# Altium integrated library RHD2000.IntLib: 14 symbols
Pins are listed as number, name and electrical type; pins without a type are passive.

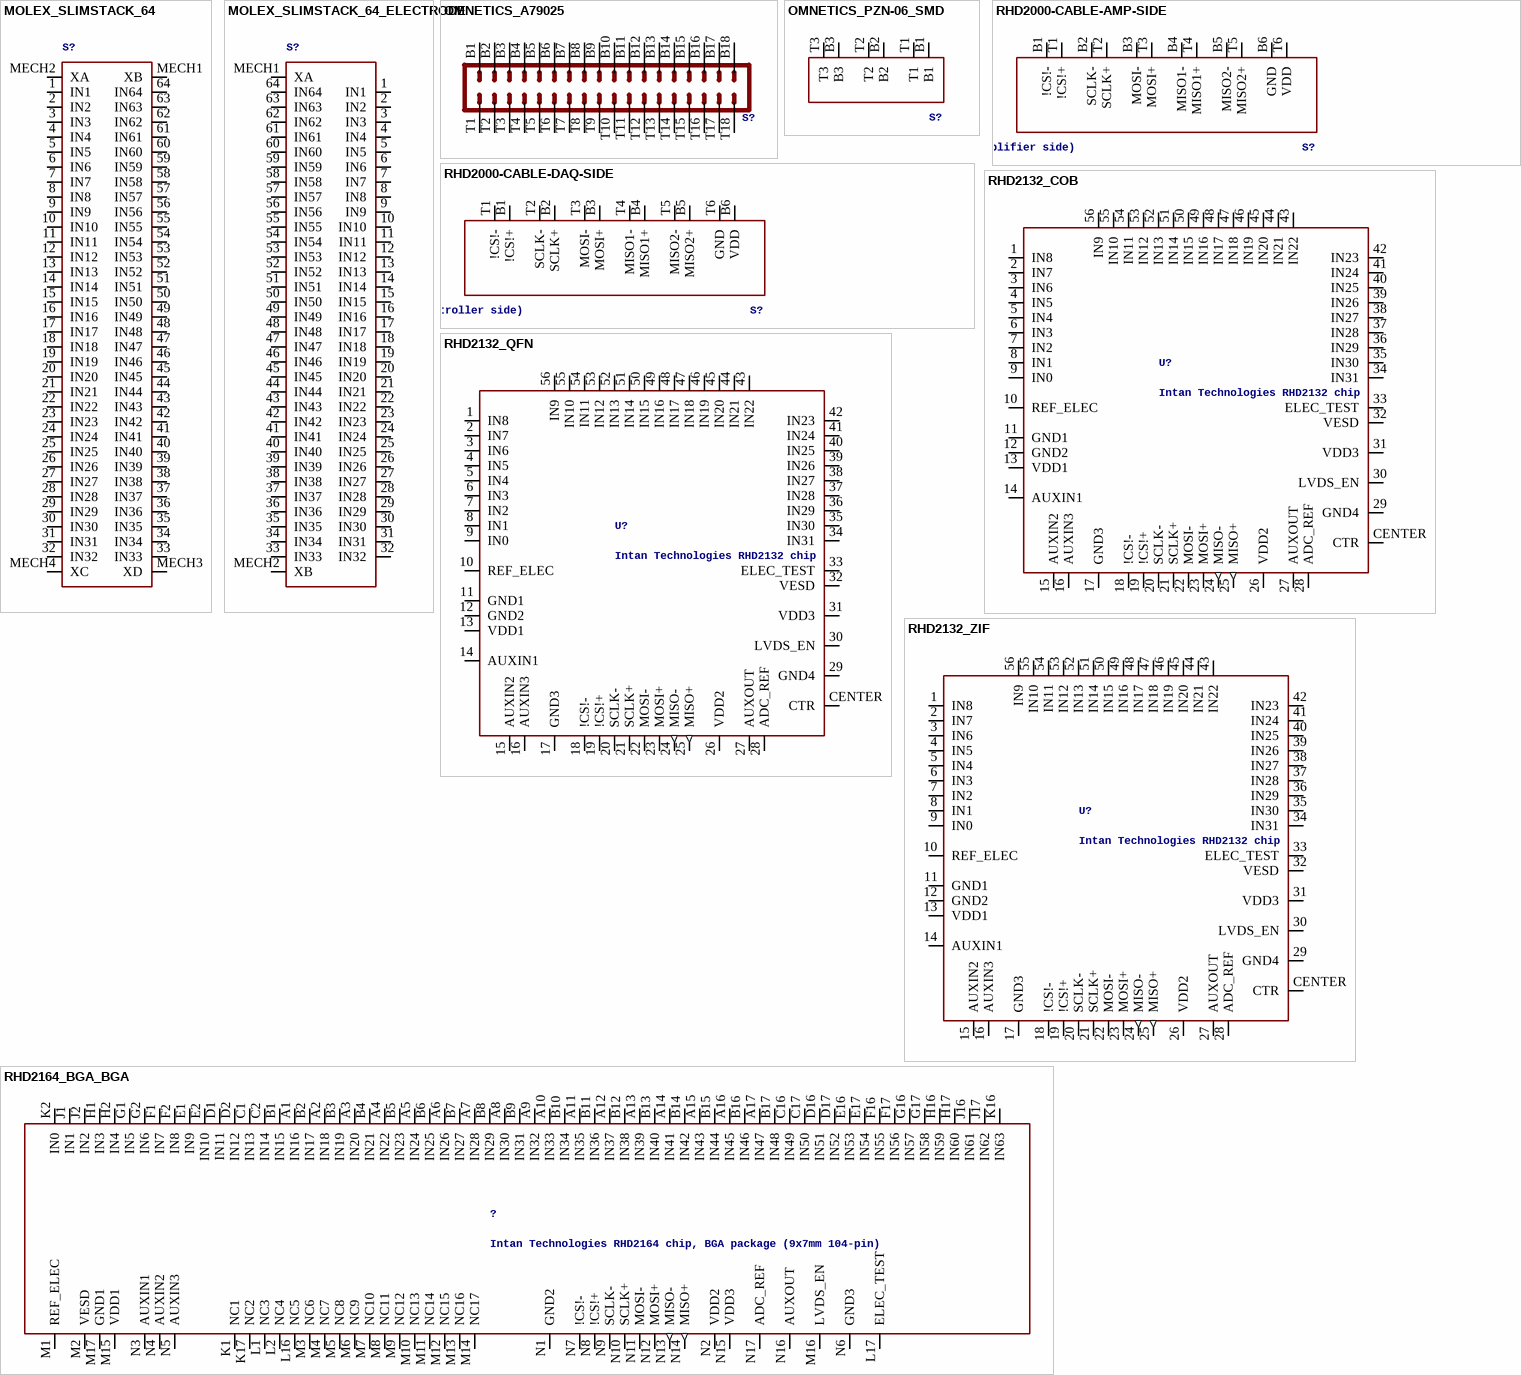
[diagram p0: symbols MOLEX_SLIMSTACK_64 to RHD2164_BGA_BGA]

## MOLEX_SLIMSTACK_64
designator S?, comment Molex 64-pin SlimStack connector (DigiKey WM24076-ND)  (value not drawn)
GateName_1: A; SymbolName_1: MOLEX_SLIMSTACK_64; LibraryName: RHD2000; DeviceSetName: MOLEX_SLIMSTACK_64; Package: MOLEX_SLIMSTACK_64
footprint MOLEX_SLIMSTACK_64
pins: 1 IN1, 2 IN2, 3 IN3, 4 IN4, 5 IN5, 6 IN6, 7 IN7, 8 IN8, 9 IN9, 10 IN10, 11 IN11, 12 IN12, 13 IN13, 14 IN14, 15 IN15, 16 IN16, 17 IN17, 18 IN18, 19 IN19, 20 IN20, 21 IN21, 22 IN22, 23 IN23, 24 IN24, 25 IN25, 26 IN26, 27 IN27, 28 IN28, 29 IN29, 30 IN30, 31 IN31, 32 IN32, 33 IN33, 34 IN34, 35 IN35, 36 IN36, 37 IN37, 38 IN38, 39 IN39, 40 IN40, 41 IN41, 42 IN42, 43 IN43, 44 IN44, 45 IN45, 46 IN46, 47 IN47, 48 IN48, 49 IN49, 50 IN50, 51 IN51, 52 IN52, 53 IN53, 54 IN54, 55 IN55, 56 IN56, 57 IN57, 58 IN58, 59 IN59, 60 IN60, 61 IN61, 62 IN62, 63 IN63, 64 IN64, MECH1 XB, MECH2 XA, MECH3 XD, MECH4 XC

## MOLEX_SLIMSTACK_64_ELECTRODE
designator S?, comment Molex 64-pin SlimStack connector (electrode side) (DigiKey WM24084-ND)  (value not drawn)
GateName_1: A; SymbolName_1: MOLEX_SLIMSTACK_64_ELECTRODE; LibraryName: RHD2000; DeviceSetName: MOLEX_SLIMSTACK_64_ELECTRODE; Package: MOLEX_SLIMSTACK_64_ELECTRODE
footprint MOLEX_SLIMSTACK_64_ELECTRODE
pins: 1 IN1, 2 IN2, 3 IN3, 4 IN4, 5 IN5, 6 IN6, 7 IN7, 8 IN8, 9 IN9, 10 IN10, 11 IN11, 12 IN12, 13 IN13, 14 IN14, 15 IN15, 16 IN16, 17 IN17, 18 IN18, 19 IN19, 20 IN20, 21 IN21, 22 IN22, 23 IN23, 24 IN24, 25 IN25, 26 IN26, 27 IN27, 28 IN28, 29 IN29, 30 IN30, 31 IN31, 32 IN32, 33 IN33, 34 IN34, 35 IN35, 36 IN36, 37 IN37, 38 IN38, 39 IN39, 40 IN40, 41 IN41, 42 IN42, 43 IN43, 44 IN44, 45 IN45, 46 IN46, 47 IN47, 48 IN48, 49 IN49, 50 IN50, 51 IN51, 52 IN52, 53 IN53, 54 IN54, 55 IN55, 56 IN56, 57 IN57, 58 IN58, 59 IN59, 60 IN60, 61 IN61, 62 IN62, 63 IN63, 64 IN64, MECH1 XA, MECH2 XB

## OMNETICS_A79025
designator S?, comment Omnetics A79025 36-pin connector  (value not drawn)
GateName_1: A; SymbolName_1: OMNETICS_A79025; LibraryName: RHD2000; DeviceSetName: OMNETICS_A79025; Package: OMNETICS_A79025
footprint OMNETICS_A79025
pins: B1, B2, B3, B4, B5, B6, B7, B8, B9, B10, B11, B12, B13, B14, B15, B16, B17, B18, T1, T2, T3, T4, T5, T6, T7, T8, T9, T10, T11, T12, T13, T14, T15, T16, T17, T18

## OMNETICS_PZN-06_SMD
designator S?
GateName_1: A; SymbolName_1: OMNETICS_PZN-06; DeviceName: _SMD; LibraryName: RHD2000; DeviceSetName: OMNETICS_PZN-06; Package: OMNETICS_PZN-06-AA
footprint OMNETICS_PZN-06-AA
pins: B1, B2, B3, T1, T2, T3

## RHD2000-CABLE-AMP-SIDE
designator S?, comment Omnetics A79623 PZN-12-AA connector for SPI interface (amplifier side)
GateName_1: A; SymbolName_1: RHD2000-CABLE; DeviceSetName: RHD2000-CABLE-AMP-SIDE; LibraryName: RHD2000; Package: OMNETICS_PZN-12-AA
footprint OMNETICS_PZN-12-AA
pins: B1 !CS!-, B2 SCLK-, B3 MOSI-, B4 MISO1-, B5 MISO2-, B6 GND (power), T1 !CS!+, T2 SCLK+, T3 MOSI+, T4 MISO1+, T5 MISO2+, T6 VDD

## RHD2000-CABLE-DAQ-SIDE
designator S?, comment Omnetics A79623 PZN-12-AA connector for SPI interface (controller side)
GateName_1: A; SymbolName_1: RHD2000-CABLE; DeviceSetName: RHD2000-CABLE-DAQ-SIDE; LibraryName: RHD2000; Package: OMNETICS_PZN-12-AA
footprint OMNETICS_PZN-12-AA
pins: B1 !CS!+, B2 SCLK+, B3 MOSI+, B4 MISO1+, B5 MISO2+, B6 VDD, T1 !CS!-, T2 SCLK-, T3 MOSI-, T4 MISO1-, T5 MISO2-, T6 GND (power)

## RHD2132_COB
designator U?, comment Intan Technologies RHD2132 chip
GateName_1: A; DeviceName: _COB; SymbolName_1: RHD2132; LibraryName: RHD2000; DeviceSetName: RHD2132; Package: RHD2000_56PIN_COB
footprint RHD2000_56PIN_COB
pins: 1 IN8, 2 IN7, 3 IN6, 4 IN5, 5 IN4, 6 IN3, 7 IN2, 8 IN1, 9 IN0, 10 REF_ELEC, 11 GND1 (power), 12 GND2 (power), 13 VDD1 (power), 14 AUXIN1, 15 AUXIN2, 16 AUXIN3, 17 GND3 (power), 18 !CS!-, 19 !CS!+, 20 SCLK-, 21 SCLK+, 22 MOSI-, 23 MOSI+, 24 MISO- (out), 25 MISO+ (out), 26 VDD2 (power), 27 AUXOUT (hiz), 28 ADC_REF, 29 GND4 (power), 30 LVDS_EN, 31 VDD3 (power), 32 VESD (power), 33 ELEC_TEST, 34 IN31, 35 IN30, 36 IN29, 37 IN28, 38 IN27, 39 IN26, 40 IN25, 41 IN24, 42 IN23, 43 IN22, 44 IN21, 45 IN20, 46 IN19, 47 IN18, 48 IN17, 49 IN16, 50 IN15, 51 IN14, 52 IN13, 53 IN12, 54 IN11, 55 IN10, 56 IN9, CENTER CTR (power)

## RHD2132_QFN
designator U?, comment Intan Technologies RHD2132 chip
GateName_1: A; DeviceName: _QFN; SymbolName_1: RHD2132; LibraryName: RHD2000; DeviceSetName: RHD2132; Package: QFN56_8_X_8_LARGE
footprint QFN56_8_X_8_LARGE
pins: 1 IN8, 2 IN7, 3 IN6, 4 IN5, 5 IN4, 6 IN3, 7 IN2, 8 IN1, 9 IN0, 10 REF_ELEC, 11 GND1 (power), 12 GND2 (power), 13 VDD1 (power), 14 AUXIN1, 15 AUXIN2, 16 AUXIN3, 17 GND3 (power), 18 !CS!-, 19 !CS!+, 20 SCLK-, 21 SCLK+, 22 MOSI-, 23 MOSI+, 24 MISO- (out), 25 MISO+ (out), 26 VDD2 (power), 27 AUXOUT (hiz), 28 ADC_REF, 29 GND4 (power), 30 LVDS_EN, 31 VDD3 (power), 32 VESD (power), 33 ELEC_TEST, 34 IN31, 35 IN30, 36 IN29, 37 IN28, 38 IN27, 39 IN26, 40 IN25, 41 IN24, 42 IN23, 43 IN22, 44 IN21, 45 IN20, 46 IN19, 47 IN18, 48 IN17, 49 IN16, 50 IN15, 51 IN14, 52 IN13, 53 IN12, 54 IN11, 55 IN10, 56 IN9, CENTER CTR (power)

## RHD2132_ZIF
designator U?, comment Intan Technologies RHD2132 chip
GateName_1: A; DeviceName: _ZIF; SymbolName_1: RHD2132; LibraryName: RHD2000; DeviceSetName: RHD2132; Package: ZIF_QFN56_8_X_8_MLF00056A1
footprint ZIF_QFN56_8_X_8_MLF00056A1
pins: 1 IN8, 2 IN7, 3 IN6, 4 IN5, 5 IN4, 6 IN3, 7 IN2, 8 IN1, 9 IN0, 10 REF_ELEC, 11 GND1 (power), 12 GND2 (power), 13 VDD1 (power), 14 AUXIN1, 15 AUXIN2, 16 AUXIN3, 17 GND3 (power), 18 !CS!-, 19 !CS!+, 20 SCLK-, 21 SCLK+, 22 MOSI-, 23 MOSI+, 24 MISO- (out), 25 MISO+ (out), 26 VDD2 (power), 27 AUXOUT (hiz), 28 ADC_REF, 29 GND4 (power), 30 LVDS_EN, 31 VDD3 (power), 32 VESD (power), 33 ELEC_TEST, 34 IN31, 35 IN30, 36 IN29, 37 IN28, 38 IN27, 39 IN26, 40 IN25, 41 IN24, 42 IN23, 43 IN22, 44 IN21, 45 IN20, 46 IN19, 47 IN18, 48 IN17, 49 IN16, 50 IN15, 51 IN14, 52 IN13, 53 IN12, 54 IN11, 55 IN10, 56 IN9, CENTER CTR (power)

## RHD2164_BGA_BGA
designator ?, comment Intan Technologies RHD2164 chip, BGA package (9x7mm 104-pin)
GateName_1: A; SymbolName_1: RHD2164_BGA; DeviceName: _BGA; LibraryName: RHD2000; DeviceSetName: RHD2164_BGA; Package: BGA104_9X7
footprint BGA104_9X7
pins: A1 IN16, A2 IN18, A3 IN20, A4 IN22, A5 IN24, A6 IN26, A7 IN28, A8 IN30, A9 IN32, A10 IN33, A11 IN35, A12 IN37, A13 IN39, A14 IN41, A15 IN43, A16 IN45, A17 IN47, B1 IN15, B2 IN17, B3 IN19, B4 IN21, B5 IN23, B6 IN25, B7 IN27, B8 IN29, B9 IN31, B10 IN34, B11 IN36, B12 IN38, B13 IN40, B14 IN42, B15 IN44, B16 IN46, B17 IN48, C1 IN13, C2 IN14, C16 IN49, C17 IN50, D1 IN11, D2 IN12, D16 IN51, D17 IN52, E1 IN9, E2 IN10, E16 IN53, E17 IN54, F1 IN7, F2 IN8, F16 IN55, F17 IN56, G1 IN5, G2 IN6, G16 IN57, G17 IN58, H1 IN3, H2 IN4, H16 IN59, H17 IN60, J1 IN1, J2 IN2, J16 IN61, J17 IN62, K1 NC1, K2 IN0, K16 IN63, K17 NC2, L1 NC3, L2 NC4, L16 NC5, L17 ELEC_TEST, M1 REF_ELEC, M2 VESD (power), M3 NC6, M4 NC7, M5 NC8, M6 NC9, M7 NC10, M8 NC11, M9 NC12, M10 NC13, M11 NC14, M12 NC15, M13 NC16, M14 NC17, M15 VDD1 (power), M16 LVDS_EN, M17 GND1 (power), N1 GND2 (power), N2 VDD2 (power), N3 AUXIN1, N4 AUXIN2, N5 AUXIN3, N6 GND3 (power), N7 !CS!-, N8 !CS!+, N9 SCLK-, N10 SCLK+, N11 MOSI-, N12 MOSI+, N13 MISO- (out), N14 MISO+ (out), N15 VDD3 (power), N16 AUXOUT (hiz), N17 ADC_REF

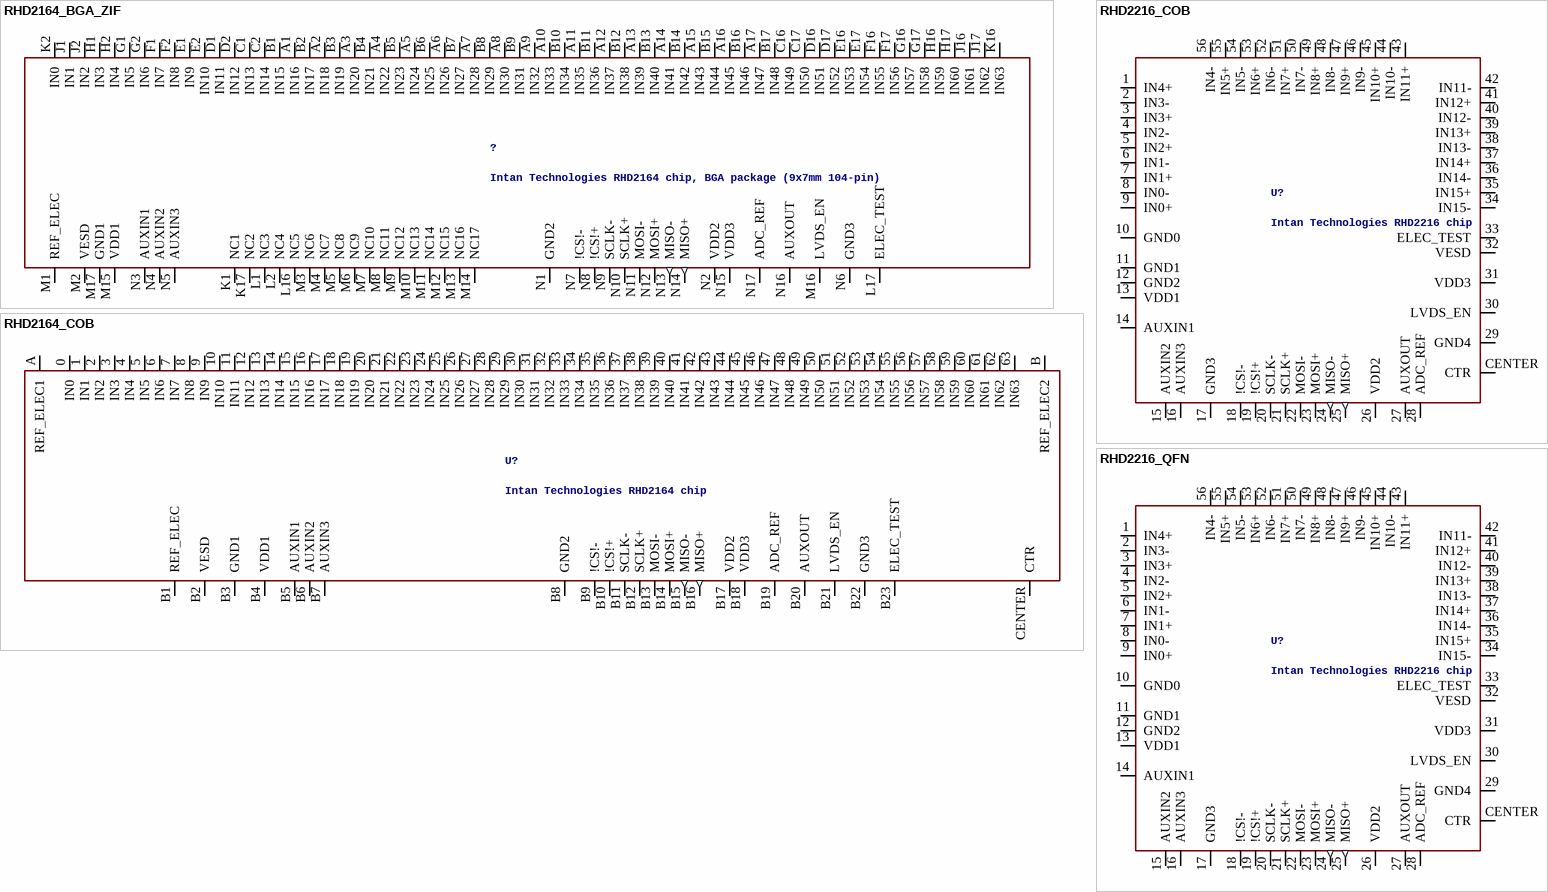
[diagram p1: symbols RHD2164_BGA_ZIF to RHD2216_QFN]

## RHD2164_BGA_ZIF
designator ?, comment Intan Technologies RHD2164 chip, BGA package (9x7mm 104-pin)
GateName_1: A; SymbolName_1: RHD2164_BGA; DeviceName: _ZIF; LibraryName: RHD2000; DeviceSetName: RHD2164_BGA; Package: BGA104_9X7_ZIF
footprint BGA104_9X7_ZIF
pins: A1 IN16, A2 IN18, A3 IN20, A4 IN22, A5 IN24, A6 IN26, A7 IN28, A8 IN30, A9 IN32, A10 IN33, A11 IN35, A12 IN37, A13 IN39, A14 IN41, A15 IN43, A16 IN45, A17 IN47, B1 IN15, B2 IN17, B3 IN19, B4 IN21, B5 IN23, B6 IN25, B7 IN27, B8 IN29, B9 IN31, B10 IN34, B11 IN36, B12 IN38, B13 IN40, B14 IN42, B15 IN44, B16 IN46, B17 IN48, C1 IN13, C2 IN14, C16 IN49, C17 IN50, D1 IN11, D2 IN12, D16 IN51, D17 IN52, E1 IN9, E2 IN10, E16 IN53, E17 IN54, F1 IN7, F2 IN8, F16 IN55, F17 IN56, G1 IN5, G2 IN6, G16 IN57, G17 IN58, H1 IN3, H2 IN4, H16 IN59, H17 IN60, J1 IN1, J2 IN2, J16 IN61, J17 IN62, K1 NC1, K2 IN0, K16 IN63, K17 NC2, L1 NC3, L2 NC4, L16 NC5, L17 ELEC_TEST, M1 REF_ELEC, M2 VESD (power), M3 NC6, M4 NC7, M5 NC8, M6 NC9, M7 NC10, M8 NC11, M9 NC12, M10 NC13, M11 NC14, M12 NC15, M13 NC16, M14 NC17, M15 VDD1 (power), M16 LVDS_EN, M17 GND1 (power), N1 GND2 (power), N2 VDD2 (power), N3 AUXIN1, N4 AUXIN2, N5 AUXIN3, N6 GND3 (power), N7 !CS!-, N8 !CS!+, N9 SCLK-, N10 SCLK+, N11 MOSI-, N12 MOSI+, N13 MISO- (out), N14 MISO+ (out), N15 VDD3 (power), N16 AUXOUT (hiz), N17 ADC_REF

## RHD2164_COB
designator U?, comment Intan Technologies RHD2164 chip
GateName_1: A; DeviceName: _COB; SymbolName_1: RHD2164; LibraryName: RHD2000; DeviceSetName: RHD2164; Package: RHD2164_COB
footprint RHD2164_COB
pins: 0 IN0, 1 IN1, 2 IN2, 3 IN3, 4 IN4, 5 IN5, 6 IN6, 7 IN7, 8 IN8, 9 IN9, 10 IN10, 11 IN11, 12 IN12, 13 IN13, 14 IN14, 15 IN15, 16 IN16, 17 IN17, 18 IN18, 19 IN19, 20 IN20, 21 IN21, 22 IN22, 23 IN23, 24 IN24, 25 IN25, 26 IN26, 27 IN27, 28 IN28, 29 IN29, 30 IN30, 31 IN31, 32 IN32, 33 IN33, 34 IN34, 35 IN35, 36 IN36, 37 IN37, 38 IN38, 39 IN39, 40 IN40, 41 IN41, 42 IN42, 43 IN43, 44 IN44, 45 IN45, 46 IN46, 47 IN47, 48 IN48, 49 IN49, 50 IN50, 51 IN51, 52 IN52, 53 IN53, 54 IN54, 55 IN55, 56 IN56, 57 IN57, 58 IN58, 59 IN59, 60 IN60, 61 IN61, 62 IN62, 63 IN63, A REF_ELEC1, B REF_ELEC2, B1 REF_ELEC, B2 VESD (power), B3 GND1 (power), B4 VDD1 (power), B5 AUXIN1, B6 AUXIN2, B7 AUXIN3, B8 GND2 (power), B9 !CS!-, B10 !CS!+, B11 SCLK-, B12 SCLK+, B13 MOSI-, B14 MOSI+, B15 MISO- (out), B16 MISO+ (out), B17 VDD2 (power), B18 VDD3 (power), B19 ADC_REF, B20 AUXOUT (hiz), B21 LVDS_EN, B22 GND3 (power), B23 ELEC_TEST, CENTER CTR (power)

## RHD2216_COB
designator U?, comment Intan Technologies RHD2216 chip
GateName_1: A; DeviceName: _COB; SymbolName_1: RHD2216; LibraryName: RHD2000; DeviceSetName: RHD2216; Package: RHD2000_56PIN_COB
footprint RHD2000_56PIN_COB
pins: 1 IN4+, 2 IN3-, 3 IN3+, 4 IN2-, 5 IN2+, 6 IN1-, 7 IN1+, 8 IN0-, 9 IN0+, 10 GND0, 11 GND1 (power), 12 GND2 (power), 13 VDD1 (power), 14 AUXIN1, 15 AUXIN2, 16 AUXIN3, 17 GND3 (power), 18 !CS!-, 19 !CS!+, 20 SCLK-, 21 SCLK+, 22 MOSI-, 23 MOSI+, 24 MISO- (out), 25 MISO+ (out), 26 VDD2 (power), 27 AUXOUT (hiz), 28 ADC_REF, 29 GND4 (power), 30 LVDS_EN, 31 VDD3 (power), 32 VESD (power), 33 ELEC_TEST, 34 IN15-, 35 IN15+, 36 IN14-, 37 IN14+, 38 IN13-, 39 IN13+, 40 IN12-, 41 IN12+, 42 IN11-, 43 IN11+, 44 IN10-, 45 IN10+, 46 IN9-, 47 IN9+, 48 IN8-, 49 IN8+, 50 IN7-, 51 IN7+, 52 IN6-, 53 IN6+, 54 IN5-, 55 IN5+, 56 IN4-, CENTER CTR (power)

## RHD2216_QFN
designator U?, comment Intan Technologies RHD2216 chip
GateName_1: A; DeviceName: _QFN; SymbolName_1: RHD2216; LibraryName: RHD2000; DeviceSetName: RHD2216; Package: QFN56_8_X_8_LARGE
footprint QFN56_8_X_8_LARGE
pins: 1 IN4+, 2 IN3-, 3 IN3+, 4 IN2-, 5 IN2+, 6 IN1-, 7 IN1+, 8 IN0-, 9 IN0+, 10 GND0, 11 GND1 (power), 12 GND2 (power), 13 VDD1 (power), 14 AUXIN1, 15 AUXIN2, 16 AUXIN3, 17 GND3 (power), 18 !CS!-, 19 !CS!+, 20 SCLK-, 21 SCLK+, 22 MOSI-, 23 MOSI+, 24 MISO- (out), 25 MISO+ (out), 26 VDD2 (power), 27 AUXOUT (hiz), 28 ADC_REF, 29 GND4 (power), 30 LVDS_EN, 31 VDD3 (power), 32 VESD (power), 33 ELEC_TEST, 34 IN15-, 35 IN15+, 36 IN14-, 37 IN14+, 38 IN13-, 39 IN13+, 40 IN12-, 41 IN12+, 42 IN11-, 43 IN11+, 44 IN10-, 45 IN10+, 46 IN9-, 47 IN9+, 48 IN8-, 49 IN8+, 50 IN7-, 51 IN7+, 52 IN6-, 53 IN6+, 54 IN5-, 55 IN5+, 56 IN4-, CENTER CTR (power)